# Altium footprint library LPEDT_Component.PcbLib: 48 footprints (part 2 of 3)
Each footprint in its own frame and in the unit in brackets; x right, y up, seen from the top. Pads: shape width x height; smd on the part's side, far side on the other; paste and mask are expansions set on the pad; w line width, h text height; cw(c..) or ccw(c..) is an arc to the next point about the centre after c.
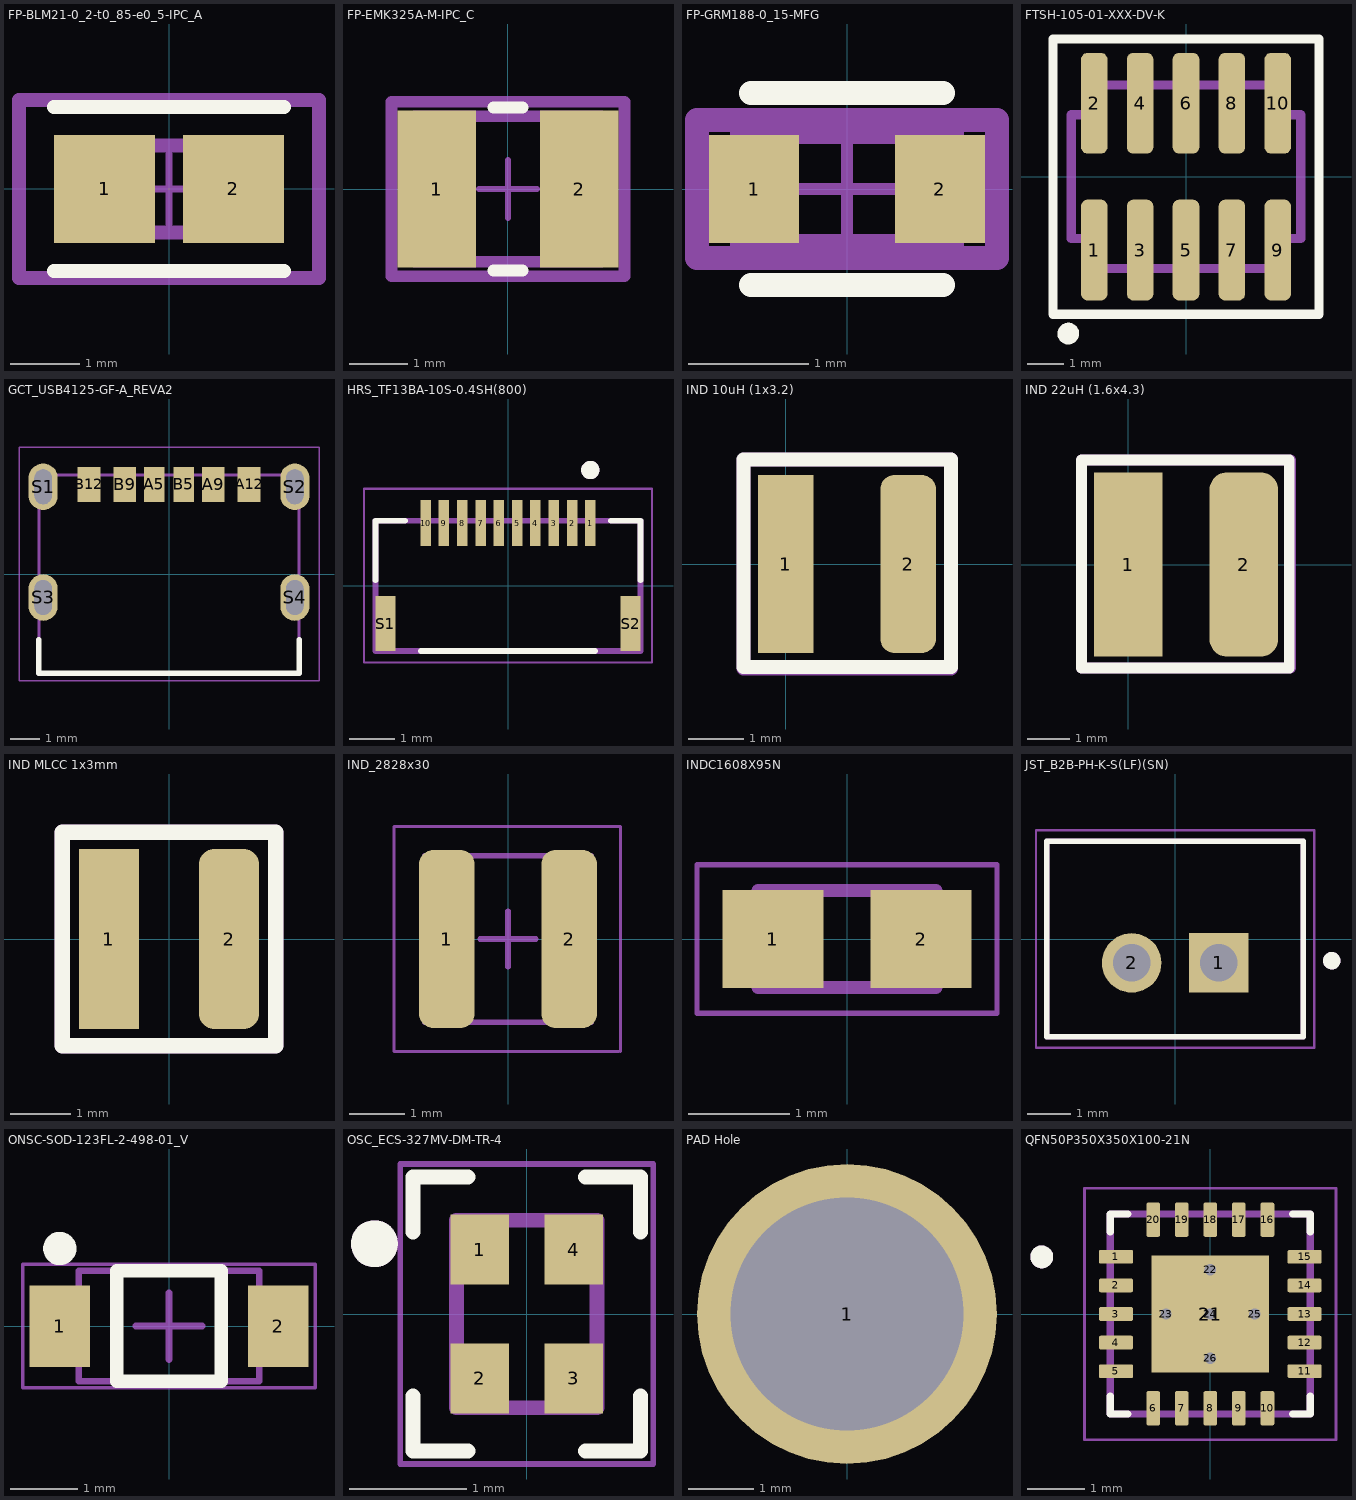
[diagram p1: the footprints below, top view; thin cyan lines are the x and y axes]

## FP-BLM21-0_2-t0_85-e0_5-IPC_A [mm]
pads (2):
  rect 1.455x1.556 smd paste+0 mask+0: 1(-0.926,0) 2(0.926,0)
Top Overlay:
  lines w0.2: -1.653,-1.178 1.653,-1.178 ; -1.653,1.178 1.653,1.178
Top 3D Body:
  lines w0.2: -1,-0.625 1,-0.625 1,0.625 -1,0.625 -1,-0.625
Top Courtyard:
  lines w0.2: -2.153,-1.278 2.153,-1.278 2.153,1.278 -2.153,1.278 -2.153,-1.278
Top Assembly:
  lines w0.2: -2.153,-1.278 2.153,-1.278 2.153,1.278 -2.153,1.278 -2.153,-1.278
  text ".Designator" at 0,0.188 h1
Top Component Center:
  lines w0.1: -0.5,0 0.5,0 ; 0,-0.5 0,0.5
3D body "FBead_Murata_BLM21AG102SN1D_eec.STEP": height 0.25, standoff 0, extent -2.153,-1.278 2.153,1.278

## FP-EMK325A-M-IPC_C [mm]
pads (2):
  rect 1.353x2.704 smd paste+0 mask+0: 1(-1.225,0) 2(1.225,0)
Top Overlay:
  lines w0.2: -0.249,-1.4 0.249,-1.4 ; -0.249,1.4 0.249,1.4
Top 3D Body:
  lines w0.2: -1.6,-1.25 1.6,-1.25 1.6,1.25 -1.6,1.25 -1.6,-1.25
Top Courtyard:
  lines w0.2: -2.002,-1.5 2.002,-1.5 2.002,1.5 -2.002,1.5 -2.002,-1.5
Top Assembly:
  lines w0.2: -2.002,-1.5 2.002,-1.5 2.002,1.5 -2.002,1.5 -2.002,-1.5
  text ".Designator" at 0,0.188 h1
Top Component Center:
  lines w0.1: -0.5,0 0.5,0 ; 0,-0.5 0,0.5
3D body "Cap_Taiyo_Yuden_EMK325ABJ107MM-T_eec.STEP": height 0.25, standoff 0, extent -2.002,-1.5 2.002,1.5

## FP-GRM188-0_15-MFG [mm]
pads (2):
  rect 0.75x0.9 smd paste+0 mask+0: 1(-0.775,0) 2(0.775,0)
Top Overlay:
  lines w0.2: -0.8,-0.8 0.8,-0.8 ; -0.8,0.8 0.8,0.8
Top 3D Body:
  lines w0.2: -0.875,-0.475 -0.875,0.475 0.875,0.475 0.875,-0.475 -0.875,-0.475
Top Courtyard:
  lines w0.2: -1.25,-0.575 -1.25,0.575 1.25,0.575 1.25,-0.575 -1.25,-0.575
Top Assembly:
  lines w0.2: -1.25,-0.575 -1.25,0.575 1.25,0.575 1.25,-0.575 -1.25,-0.575
  text ".Designator" at 0,0.188 h1
Top Component Center:
  lines w0.1: -0.5,0 0.5,0 ; 0,-0.5 0,0.5
3D body "Cap_Murata_GRM188R61C475KAAJD_eec.STEP": height 0.25, standoff 0, extent -1.25,-0.575 1.25,0.575

## FTSH-105-01-XXX-DV-K [mil]
pads (10):
  rrect50% 29x110 smd mask+2: 1(-100,-80) 2(-100,80) 3(-50,-80) 4(-50,80) 5(0,-80) 6(0,80) 7(50,-80) 8(50,80) 9(100,-80) 10(100,80)
Top Overlay:
  lines w10: -145,-150 -145,150 145,150 145,-150 -145,-150
  lines w11.81: -122.39,-171.52 cw(c-128.27,-171.01) -122.37,-171.01
Mechanical 1:
  lines w10: -125,-67.5 -125,67.5 -100,67.5 -100,100 100,100 100,67.5 125,67.5 125,-67.5 100,-67.5 100,-100 -100,-100 -100,-67.5 -125,-67.5
  text ".Designator" at -97.68,-8.48 h19.68
3D body "FTSH-105-01-LM-DV-K.stp": height 240.75, standoff -0.25, extent -124.99,-114.99 125,115

## GCT_USB4125-GF-A_REVA2 [mm]
pads (10):
  rect 0.7x1.2 smd mask+0.051: A5(-0.5,3.08) B5(0.5,3.08)
  rect 0.76x1.2 smd mask+0.051: A9(1.52,3.08) B9(-1.52,3.08)
  rect 0.8x1.2 smd mask+0.051: A12(2.75,3.08) B12(-2.75,3.08)
  oval 1x1.6 hole 0.6 slot 1.2 at 90 deg mask+0: S1(-4.32,3) S2(4.32,3) S3(-4.32,-0.8) S4(4.32,-0.8)
Top Overlay:
  lines w0.2: -4.47,-2.25 -4.47,-3.4 4.47,-3.4 4.47,-2.25
Top Solder:
  drawing of 4 lines, arcs and shapes, not listed
Bottom Solder:
  drawing of 4 lines, arcs and shapes, not listed
Mechanical 1:
  text ".Designator" at -3.322,-2.363 h0.5
Mechanical 13:
  lines w0.1: -4.47,-3.4 4.47,-3.4 4.47,3.4 -4.47,3.4 -4.47,-3.4
Mechanical 15:
  lines w0.05: -5.15,-3.65 5.15,-3.65 5.15,4.35 -5.15,4.35 -5.15,-3.65
3D body "USB4125-GF-A--3DModel-STEP-56544.STEP": height 3.26, standoff -1.25, extent -4.47,-3.45 4.47,3.45

## HRS_TF13BA-10S-0.4SH(800) [mm]
pads (12):
  rect 0.23x1 smd: 1(1.8,1.375) 2(1.4,1.375) 3(1,1.375) 4(0.6,1.375) 5(0.2,1.375) 6(-0.2,1.375) 7(-0.6,1.375) 8(-1,1.375) 9(-1.4,1.375) 10(-1.8,1.375)
  rect 0.44x1.2 smd: S1(-2.68,-0.825) S2(2.68,-0.825)
Top Overlay:
  circle w0.2: c1.8,2.535 r0.1
  lines w0.127: -2.9,0.125 -2.9,1.425 -2.25,1.425 ; -1.9,-1.425 1.9,-1.425 ; 2.25,1.425 2.9,1.425 2.9,0.125
Mechanical 13:
  circle w0.2: c1.8,2.535 r0.1
  lines w0.127: -2.9,-1.425 -2.9,1.425 2.9,1.425 2.9,-1.425 -2.9,-1.425
Mechanical 15:
  lines w0.05: -3.15,-1.675 -3.15,2.125 3.15,2.125 3.15,-1.675 -3.15,-1.675

## IND 10uH (1x3.2) [mm]
pads (2):
  rect 1x3.2 smd: 1(0,0)
  rrect50% 1x3.2 smd: 2(2.2,0)
Top Overlay:
  lines w0.254: -0.762,-1.854 -0.762,1.88 2.972,1.88 2.972,-1.854 -0.762,-1.854
Mechanical 13:
  lines w0.254: -0.762,-1.88 2.972,-1.88 2.972,1.88 -0.762,1.88 -0.762,-1.88
  text ".Designator" at -0.524,-1.016 h1.52
3D body "744029001_Download_STP_WE-TPC-2813_rev1.stp": height 0.24, standoff -0.96, extent -0.272,-1.441 2.508,1.339

## IND 22uH (1.6x4.3) [mm]
pads (2):
  rect 1.6x4.3 smd: 1(0,0)
  rrect50% 1.6x4.3 smd: 2(2.7,0)
Top Overlay:
  lines w0.254: -1.092,-2.413 -1.092,2.438 3.759,2.438 3.759,-2.413 -1.092,-2.413
Mechanical 13:
  lines w0.254: -1.092,-2.413 3.785,-2.413 3.785,2.438 -1.092,2.438 -1.092,-2.413
  text ".Designator" at -0.838,-1.651 h1.52
3D body "744031001_Download_STP_WE-TPC-3816_rev1.stp": height 1.66, standoff 0.01, extent -0.579,-1.9 3.221,1.9

## IND MLCC 1x3mm [mm] "2.2 µH Shielded Drum Core, Wirewound Inductor 1.8 A 66mOhm Max Nonstandard"
pads (2):
  rect 1x3 smd: 1(-1,0)
  rrect50% 1x3 smd: 2(1,0)
Top Overlay:
  lines w0.254: -1.778,-1.778 -1.778,1.524 -1.778,1.778 1.778,1.778 1.778,-1.778 -1.778,-1.778
Mechanical 13:
  lines w0.254: -1.778,-1.778 -1.778,1.778 1.778,1.778 1.778,-1.778 -1.778,-1.778
  text ".Designator" at -1.524,-1.016 h1.52
3D body "744029001_Download_STP_WE-TPC-2813_rev1.stp": height 0.24, standoff -0.96, extent -1.39,-1.39 1.39,1.39

## IND_2828x30 [mm]
pads (2):
  rrect50% 1x3.2 smd: 1(-1.1,0) 2(1.1,0)
Mechanical 13:
  lines w0.1: -1.5,-1.5 1.5,-1.5 1.5,1.5 -1.5,1.5 -1.5,-1.5
  text ".Designator" at -1.02,-1.095 h0.9
Mechanical 15:
  lines w0.05: 2,-2.025 1.163,-2.025 0.656,-2.025 -0.506,-2.025 -1.162,-2.025 -2.05,-2.025 -2.05,2.025 2.025,2.025 2.025,-2.025
  lines w0.1: -0.5,0 0.5,0 ; 0,-0.5 0,0.5
3D body "WE-TPC_2828+(rev1).stp": height 2.8, standoff 0, extent -1.4,-1.4 1.4,1.4

## INDC1608X95N [mm]
pads (2):
  rect 1x0.97 smd: 1(-0.735,0) 2(0.735,0)
Mechanical 13:
  lines w0.127: -0.88,-0.48 -0.88,0.48 0.88,0.48 0.88,-0.48 -0.88,-0.48
Mechanical 15:
  lines w0.05: -1.485,-0.735 -1.485,0.735 1.485,0.735 1.485,-0.735 -1.485,-0.735

## JST_B2B-PH-K-S(LF)(SN) [mm]
pads (2):
  rect 1.368x1.368 / inner round 1.368 / far side rect 1.368x1.368 hole 0.86: 1(1,-0.55)
  round 1.368 hole 0.86: 2(-1,-0.55)
Top Overlay:
  circle w0.2: c3.6,-0.5 r0.1
  lines w0.127: -2.95,-2.25 -2.95,2.25 2.95,2.25 2.95,-2.25 -2.95,-2.25
Mechanical 1:
  text ".Designator" at -2.433,1.066 h0.5
Mechanical 13:
  circle w0.2: c3.6,-0.5 r0.1
  lines w0.127: -2.95,-2.25 2.95,-2.25 2.95,2.25 -2.95,2.25 -2.95,-2.25
Mechanical 15:
  lines w0.05: -3.2,-2.5 3.2,-2.5 3.2,2.5 -3.2,2.5 -3.2,-2.5
3D body "B2B-PH-K-S(LF)(SN)--3DModel-STEP-56544.STEP": height 6.05, standoff -3.35, extent -2.95,-2.25 2.95,2.25

## ONSC-SOD-123FL-2-498-01_V [mm] "SOD, 2-Leads, Body 2.7x1.65mm"
height 1
pads (2):
  rect 0.91x1.22 smd: 1(-1.635,0) 2(1.635,0)
Top Overlay:
  circle w0.25: c-1.635,1.16 r0.125
  lines w0.2: -0.78,-0.825 0.78,-0.825 0.78,0.825 -0.78,0.825 -0.78,-0.825
Mechanical 13:
  lines w0.1: -1.35,-0.825 1.35,-0.825 1.35,0.825 -1.35,0.825 -1.35,-0.825
Mechanical 15:
  lines w0.05: -2.19,-0.925 2.19,-0.925 2.19,0.925 -2.19,0.925 -2.19,-0.925
  lines w0.1: -0.5,0 0.5,0 ; 0,-0.5 0,0.5
3D body: height 1, standoff 0, extent -1.35,-0.825 1.35,0.825

## OSC_ECS-327MV-DM-TR-4 [mm]
height 0.7
pads (4):
  rect 0.5x0.6 smd: 1(-0.4,0.55) 2(-0.4,-0.55) 3(0.4,-0.55) 4(0.4,0.55)
Top Overlay:
  circle w0.2: c-1.3,0.6 r0.1
  lines w0.127: -0.97,-0.7 -0.97,-1.17 -0.5,-1.17 ; -0.97,0.7 -0.97,1.17 -0.5,1.17 ; 0.5,-1.17 0.97,-1.17 0.97,-0.7 ; 0.5,1.17 0.97,1.17 0.97,0.7
Mechanical 13:
  circle w0.2: c-1.3,0.6 r0.1
  lines w0.127: -0.6,-0.8 0.6,-0.8 0.6,0.8 -0.6,0.8 -0.6,-0.8
Mechanical 15:
  lines w0.05: -1.08,-1.28 1.08,-1.28 1.08,1.28 -1.08,1.28 -1.08,-1.28

## PAD Hole [mil]
pads (1):
  round 180 hole 140: 1(0,0)

## QFN50P350X350X100-21N [mm]
height 1
pads (26):
  rrect27% 0.6x0.24 smd mask+0: 1(-1.65,1) 2(-1.65,0.5) 3(-1.65,0) 4(-1.65,-0.5) 5(-1.65,-1) 11(1.65,-1) 12(1.65,-0.5) 13(1.65,0) 14(1.65,0.5) 15(1.65,1)
  rrect27% 0.24x0.6 smd mask+0: 6(-1,-1.65) 7(-0.5,-1.65) 8(0,-1.65) 9(0.5,-1.65) 10(1,-1.65) 16(1,1.65) 17(0.5,1.65) 18(0,1.65) 19(-0.5,1.65) 20(-1,1.65)
  rect 2.05x2.05 smd paste-2 mask+0.07: 21(0,0)
  round 0.3 hole 0.2 mask+0: 22(0,0.775) 23(-0.775,0) 24(0,0) 25(0.775,0) 26(0,-0.775)
Top Overlay:
  circle w0.2: c-2.95,1 r0.1
  lines w0.127: -1.75,-1.44 -1.75,-1.75 -1.44,-1.75 ; -1.75,1.44 -1.75,1.75 -1.44,1.75 ; 1.44,-1.75 1.75,-1.75 1.75,-1.44 ; 1.44,1.75 1.75,1.75 1.75,1.44
Top Paste:
  region: 1.02,-1.02 0.1,-1.02 0.1,-0.1 1.02,-0.1
  region: -0.1,-1.02 -1.02,-1.02 -1.02,-0.1 -0.1,-0.1
  region: 1.02,0.1 0.1,0.1 0.1,1.02 1.02,1.02
  region: -0.1,0.1 -1.02,0.1 -1.02,1.02 -0.1,1.02
Top Solder:
  drawing of 20 lines, arcs and shapes, not listed
Mechanical 13:
  circle w0.2: c-2.95,1 r0.1
  lines w0.127: -1.75,-1.75 -1.75,1.75 1.75,1.75 1.75,-1.75 -1.75,-1.75
Mechanical 15:
  lines w0.05: -2.2,-2.2 2.2,-2.2 2.2,2.2 -2.2,2.2 -2.2,-2.2
3D body "step_temp.STEP": height 1, standoff 0, extent -1.75,-1.75 1.75,1.75